# EAGLE library part 7499511611A (library circuit_tree)
IC
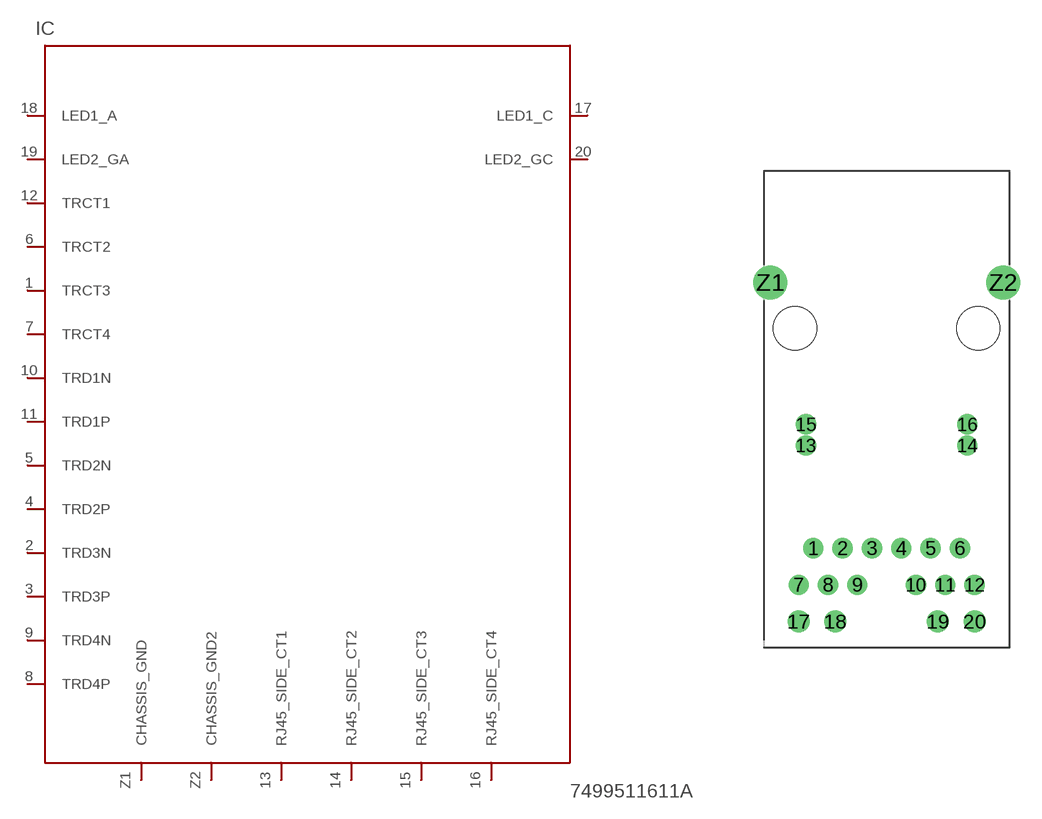
[diagram p1: symbol with the pads of 7499511611A; footprint 7499511611A]

Designator prefix IC

## 7499511611A  [7499511611A]
1  TRCT3  pas
2  TRD3N  pas
3  TRD3P  pas
4  TRD2P  pas
5  TRD2N  pas
6  TRCT2  pas
7  TRCT4  pas
8  TRD4P  pas
9  TRD4N  pas
10  TRD1N  pas
11  TRD1P  pas
12  TRCT1  pas
13  RJ45_SIDE_CT1  pas
14  RJ45_SIDE_CT2  pas
15  RJ45_SIDE_CT3  pas
16  RJ45_SIDE_CT4  pas
17  LED1_C  pas
18  LED1_A  pas
19  LED2_GA  pas
20  LED2_GC  pas
Z1  CHASSIS_GND  pas
Z2  CHASSIS_GND2  pas

## Footprint 7499511611A (pad centres in mm)
MAX HEIGHT=13.87mm PORTS----1X1LED --YES
drill 0.9: 1 -5.075,-15.24; 2 -3.045,-15.24; 3 -1.015,-15.24; 4 1.015,-15.24; 5 3.045,-15.24; 6 5.075,-15.24; 7 -6.09,-17.78; 8 -4.06,-17.78; 9 -2.03,-17.78; 10 2.03,-17.78; 11 4.06,-17.78; 12 6.09,-17.78; 13 -5.59,-8.12; 14 5.59,-8.12; 15 -5.59,-6.66; 16 5.59,-6.66
drill 1.02: 17 -6.095,-20.32; 18 -3.555,-20.32; 19 3.555,-20.32; 20 6.095,-20.32
drill 1.57: Z1 -8.065,3.18; Z2 8.065,3.18
hole 3 at -6.35,0
hole 3 at 6.35,0